# Altium footprint library 7100.PcbLib: 51 footprints (part 4 of 4)
Each footprint in its own frame and in the unit in brackets; x right, y up, seen from the top. Pads: shape width x height; smd on the part's side, far side on the other; paste and mask are expansions set on the pad; w line width, h text height; cw(c..) or ccw(c..) is an arc to the next point about the centre after c.
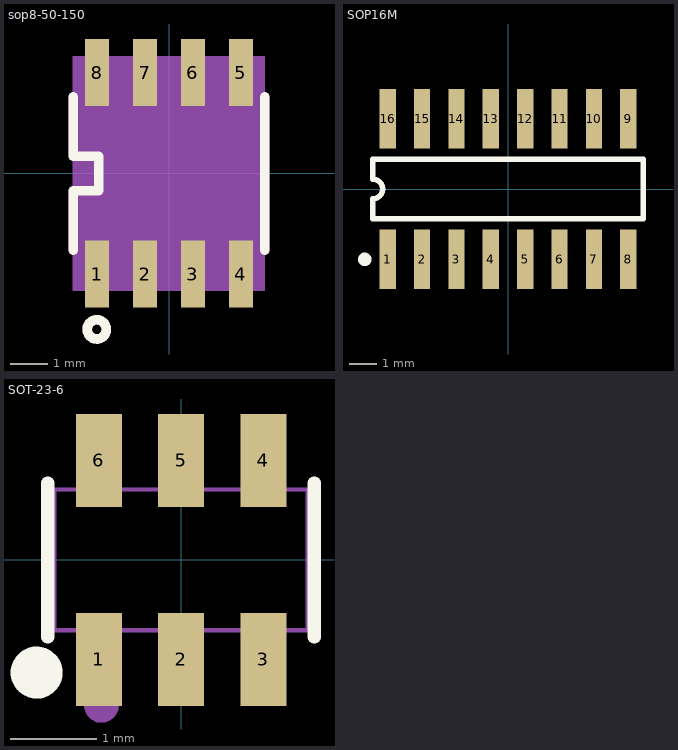
[diagram p3: the footprints below, top view; thin cyan lines are the x and y axes]

## sop8-50-150 [mil] "SOP8-50-150"
pads (8):
  rect 25x70 smd: 1(-75,-105) 2(-25,-105) 3(25,-105) 4(75,-105) 5(75,105) 6(25,105) 7(-25,105) 8(-75,105)
Top Overlay:
  circle w10: c-75.23,-162.68 r9.99
  lines w10: -100,-80 -100,-18 -73.09,-18 -73.09,18 -100,18 -100,80 ; 100,-80 100,80
Mechanical 5:
  circle w10: c-75.23,-162.68 r9.99
  lines w10: -100,-80 -100,-18 -73.09,-18 -73.09,18 -100,18 -100,80 ; 100,-80 100,80
  text "ACS712_SOP8-50-150_ACS712ELCTR-" at -122.62,217.76 h62.99
  text "U83" at 67.67,-184.95 h25
Mechanical 14:
  text "7" at -21,105 h10
  text "1" at -71,-105 h10
  text "2" at -21,-105 h10
  text "6" at 29,105 h10
  text "3" at 29,-105 h10
  text "4" at 79,-105 h10
  text "8" at -71,105 h10
  text "5" at 79,105 h10
Mechanical 16:
  region: -100,-122 100,-122 100,122 -100,122
  lines w1: -100,-122 -100,122 100,122 100,-122 -100,-122
3D body: height 150, standoff 0, extent -100,-122 100,122

## SOP16M [mm]
pads (16):
  rect 0.6x2.2 smd: 1(-4.445,-2.6) 2(-3.175,-2.6) 3(-1.905,-2.6) 4(-0.635,-2.6) 5(0.635,-2.6) 6(1.905,-2.6) 7(3.175,-2.6) 8(4.445,-2.6) 9(4.445,2.6) 10(3.175,2.6) 11(1.905,2.6) 12(0.635,2.6) 13(-0.635,2.6) 14(-1.905,2.6) 15(-3.175,2.6) 16(-4.445,2.6)
Top Overlay:
  circle w0.25: c-5.295,-2.6 r0.125
  lines w0.2: -5,-1.1 -5,-0.367 ccw(c-5,0) -5,0.367 -5,1.1 5,1.1 5,-1.1 -5,-1.1

## SOT-23-6 [mm] "GM836-ADJXN6G/TR-SOT-23-6_L2.9-W1.6-P0.95-LS2.8-BL"
pads (6):
  rect 0.532x1.072 smd: 1(-0.95,-1.149) 2(0,-1.149) 3(0.95,-1.149) 4(0.95,1.149) 5(0,1.149) 6(-0.95,1.149)
Top Overlay:
  circle w0.3: c-1.668,-1.301 r0.15
  lines w0.152: -1.539,-0.889 -1.539,0.889 ; 1.539,-0.889 1.539,0.889
Mechanical 6:
  circle w0.2: c-0.92,-1.68 r0.1
Mechanical 15:
  region: -1.165,0.935 -0.735,0.935 -0.735,0.803 -1.165,0.803
  region: -1.165,0.925 -0.735,0.925 -0.735,1.4 -1.165,1.4
  region: -0.215,0.935 0.215,0.935 0.215,0.803 -0.215,0.803
  region: -0.215,0.925 0.215,0.925 0.215,1.4 -0.215,1.4
  region: 0.735,0.935 1.165,0.935 1.165,0.803 0.735,0.803
  region: 0.735,0.925 1.165,0.925 1.165,1.4 0.735,1.4
  region: 0.735,-0.803 1.165,-0.803 1.165,-0.935 0.735,-0.935
  region: 0.735,-0.925 1.165,-0.925 1.165,-1.4 0.735,-1.4
  region: -0.215,-0.803 0.215,-0.803 0.215,-0.935 -0.215,-0.935
  region: -0.215,-0.925 0.215,-0.925 0.215,-1.4 -0.215,-1.4
  region: -1.165,-0.803 -0.735,-0.803 -0.735,-0.935 -1.165,-0.935
  region: -1.165,-0.925 -0.735,-0.925 -0.735,-1.4 -1.165,-1.4
  region: -1.403,-1.4 -1.403,-1.375 -1.438,-1.34 -1.488,-1.34 -1.523,-1.375 -1.523,-1.4 -1.523,-1.425 -1.488,-1.46 -1.438,-1.46 -1.403,-1.425 -1.403,-1.4
  lines w0.051: -1.463,-0.813 -1.463,0.813 1.463,0.813 1.463,-0.813 -1.463,-0.813